# Altium schematic symbol library 04023C104KAT2A-62.SchLib: 1 symbol
Pins are listed as number, name and electrical type; pins without a type are passive.

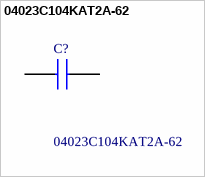
[diagram p0: symbol 04023C104KAT2A-62]

## 04023C104KAT2A-62
designator C?
Multilayer Ceramic Capacitors MLCC - SMD/SMT T101 COMMERCIAL; Manufacturer_Name: KYOCERA; Geometry.Height: 0.56mm; Mouser Part Number: 581-04023C104KAT2A62; Mouser Price/Stock: https://www.mouser.co.uk/ProductDetail/KYOCERA-AVX/04023C104KAT2A-62?qs=%252BdQmOuGyFcH%2FNuvX5KIF9Q%3D%3D; Manufacturer_Part_Number: 04023C104KAT2A-62; Datasheet Link: https://www.arrow.com/en/products/04023c104kat2a-62/avx
footprint CAPC1005X56N
pins: 1, 2